# EAGLE library part 64BCT25244 (library QuantumOptics)
Octal TTL Buffer, tri-state in two groups, high current 50 Ohm driver.
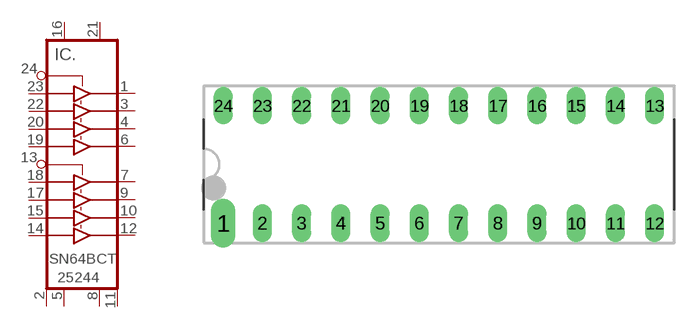
[diagram p14: symbol with the pads of DIL24; footprint DIL24]

Designator prefix IC; gates .=64BCT25244 1=GATE-NON-INVERTING 2=GATE-NON-INVERTING 3=GATE-NON-INVERTING 4=GATE-NON-INVERTING 5=GATE-NON-INVERTING 6=GATE-NON-INVERTING 7=GATE-NON-INVERTING 8=GATE-NON-INVERTING

## 64BCT25244NT  [DIL24]
1  1:Q
2  .:COM1  in
3  2:Q
4  3:Q
5  .:COM2  in
6  4:Q
7  5:Q
8  .:COM3  in
9  6:Q
10  7:Q
11  .:COM4  in
12  8:Q
13  .:EN-58  in
14  8:IN
15  7:IN
16  .:VDD1  in
17  6:IN
18  5:IN
19  4:IN
20  3:IN
21  .:VDD2  in
22  2:IN
23  1:IN
24  .:EN-14  in

## Footprint DIL24 (pad centres in mm)
24 pin DIP, standard 0.1" x 0.3" grid.
drill 0.711 pad 1.575 long: 1 -11.43,-3.81
drill 0.711 long: 2 -8.89,-3.81; 3 -6.35,-3.81; 4 -3.81,-3.81; 5 -1.27,-3.81; 6 1.27,-3.81; 7 3.81,-3.81; 8 6.35,-3.81; 9 8.89,-3.81; 10 11.43,-3.81; 11 13.97,-3.81; 12 16.51,-3.81; 13 16.51,3.81; 14 13.97,3.81; 15 11.43,3.81; 16 8.89,3.81; 17 6.35,3.81; 18 3.81,3.81; 19 1.27,3.81; 20 -1.27,3.81; 21 -3.81,3.81; 22 -6.35,3.81; 23 -8.89,3.81; 24 -11.43,3.81